# EAGLE library part POWERSOL_CC2650LAUNCHPAD (library SolarPowerBoard)
CC2650 LaunchPad
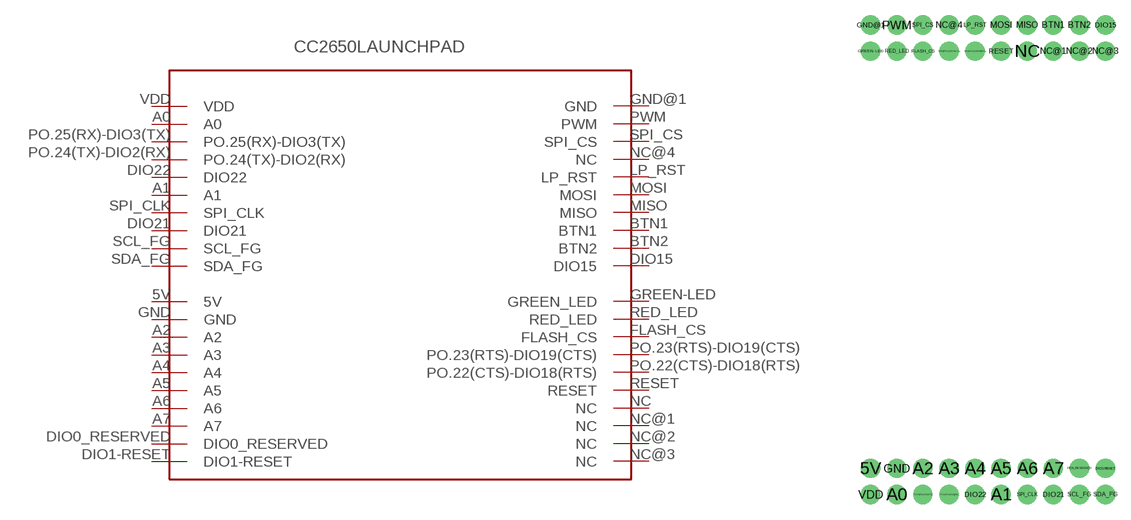
[diagram p2: symbol with the pads of POWERSOL_SEPS_RB; footprint POWERSOL_SEPS_RB]

Designator prefix RB

## POWERSOL_CC2650LAUNCHPAD  [POWERSOL_SEPS_RB]
5V  5V
A0  A0
A1  A1
A2  A2
A3  A3
A4  A4
A5  A5
A6  A6
A7  A7
BTN1  BTN1
BTN2  BTN2
DIO0_RESERVED  DIO0_RESERVED
DIO1-RESET  DIO1-RESET
DIO15  DIO15
DIO21  DIO21
DIO22  DIO22
FLASH_CS  FLASH_CS
GND  GND
GND@1  GND
GREEN-LED  GREEN_LED
LP_RST  LP_RST
MISO  MISO
MOSI  MOSI
NC  NC
NC@1  NC
NC@2  NC
NC@3  NC
NC@4  NC
PO.22(CTS)-DIO18(RTS)  PO.22(CTS)-DIO18(RTS)
PO.23(RTS)-DIO19(CTS)  PO.23(RTS)-DIO19(CTS)
PO.24(TX)-DIO2(RX)  PO.24(TX)-DIO2(RX)
PO.25(RX)-DIO3(TX)  PO.25(RX)-DIO3(TX)
PWM  PWM
RED_LED  RED_LED
RESET  RESET
SCL_FG  SCL_FG
SDA_FG  SDA_FG
SPI_CLK  SPI_CLK
SPI_CS  SPI_CS
VDD  VDD

## Footprint POWERSOL_SEPS_RB (pad centres in mm)
drill 1.016 pad 1.88: 5V 0,2.54; A0 2.54,0; A1 12.7,0; A2 5.08,2.54; A3 7.62,2.54; A4 10.16,2.54; A5 12.7,2.54; A6 15.24,2.54; A7 17.78,2.54; BTN1 17.78,45.72; BTN2 20.32,45.72; DIO0_RESERVED 20.32,2.54; DIO1-RESET 22.86,2.54; DIO15 22.86,45.72; DIO21 17.78,0; DIO22 10.16,0; FLASH_CS 5.08,43.18; GND 2.54,2.54; GND@1 0,45.72; GREEN-LED 0,43.18; LP_RST 10.16,45.72; MISO 15.24,45.72; MOSI 12.7,45.72; NC 15.24,43.18; NC@1 17.78,43.18; NC@2 20.32,43.18; NC@3 22.86,43.18; NC@4 7.62,45.72; PO.22(CTS)-DIO18(RTS) 10.16,43.18; PO.23(RTS)-DIO19(CTS) 7.62,43.18; PO.24(TX)-DIO2(RX) 7.62,0; PO.25(RX)-DIO3(TX) 5.08,0; PWM 2.54,45.72; RED_LED 2.54,43.18; RESET 12.7,43.18; SCL_FG 20.32,0; SDA_FG 22.86,0; SPI_CLK 15.24,0; SPI_CS 5.08,45.72; VDD 0,0